# EAGLE library part TPS61039 (library AWJLEagleLib)
TI TPS61039 switchmode converter
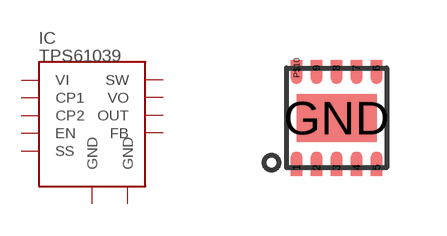
[diagram p22: symbol with the pads of SON10; footprint SON10]

Designator prefix IC

## TPS61039  [SON10]
1  GND
2  VI
3  CP2
4  CP1
5  EN
6  SS
7  FB
8  OUT
9  SW
GND  GND
P$10  VO

## Footprint SON10 (pad centres in mm)
smd 0.28 x 0.4: 1 -1,-1.25; 2 -0.5,-1.25; 3 0,-1.25; 4 0.5,-1.25; 5 1,-1.25; 6 1,1.25; 7 0.5,1.25; 8 0,1.25; 9 -0.5,1.25; P$10 -1,1.25
smd 2 x 1.2: GND 0,0